# Altium integrated library TI_Logic_Flip-Flop,Latch,Register.IntLib: 2598 symbols (part 64 of 122)
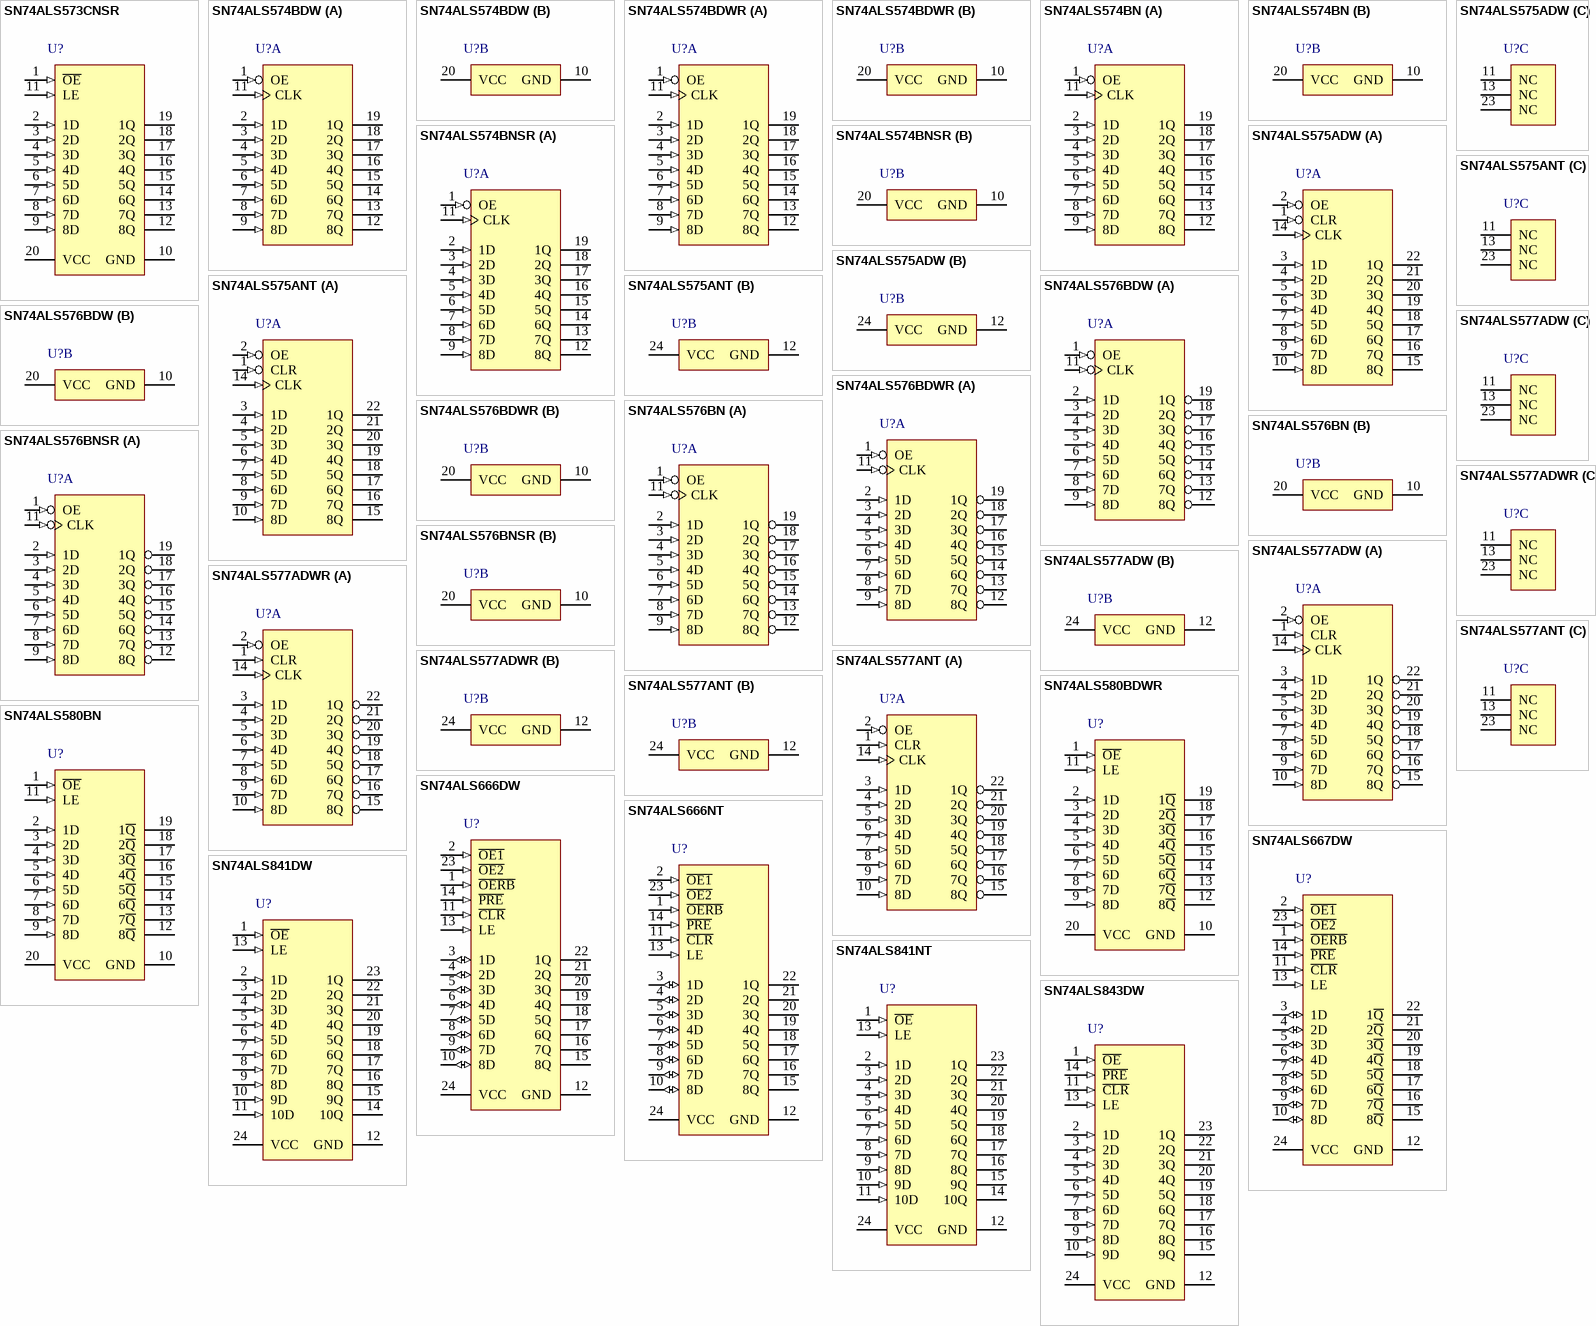
[diagram p202: symbols SN74ALS573CNSR to SN74ALS843DW]

## SN74ALS574BN
designator U?
Octal D-Type Edge-Triggered Flip-Flops with 3-State Outputs, N0020A, TUBE; Generic Part Number: SN74ALS574B; Manufacturer: Texas Instruments; PartNumber: SN74ALS574BN; VCC(Min)(V): 4.5; VCC(Max)(V): 5.5; Output Type: TTL; ICC @ Nom Voltage(Max)(mA): 30; Bits(#): 8; F @ Nom Voltage(Max)(Mhz): 75; Rating: Catalog; Technology Family: ALS; Voltage(Nom)(V): 5; Schmitt Trigger: No; Output Drive (IOL/IOH)(Max)(mA): 24/-2.6; Output Logic: Non-inverted; 3-State Output: Yes; tpd @ Nom Voltage(Max)(ns): 14; DatasheetVersion: SDAS165B; PackageReference: N0020A; Supplier 1: Digi-Key; Supplier Part Number 1: 296-1504-5-ND; Supplier 2: Farnell; Supplier Part Number 2: 1105961; Supplier 3: Newark; Supplier Part Number 3: 08F6077; Supplier 4: Mouser; Supplier Part Number 4: 595-SN74ALS574BN; Input Type: TTL; Operating Temperature Range(C): 0 to 70; Code_JEDEC: MS-001; ComponentLink1Description: Manufacturer URL; ComponentLink1URL: http://www.ti.com/; ComponentLink2Description: Datasheet; ComponentLink2URL: http://www.ti.com/lit/ds/symlink/sn74als574b.pdf; ComponentLink3Description: Package Specification; ComponentLink3URL: http://www.ti.com/lit/ml/mpdi002c/mpdi002c.pdf
footprint N0020A (DIP, 20-Leads, Body 26.9x6.6mm, Pitch 2.54mm)
part A pins: 1 OE (in), 2 1D (in), 3 2D (in), 4 3D (in), 5 4D (in), 6 5D (in), 7 6D (in), 8 7D (in), 9 8D (in), 11 CLK (in), 12 8Q (hiz), 13 7Q (hiz), 14 6Q (hiz), 15 5Q (hiz), 16 4Q (hiz), 17 3Q (hiz), 18 2Q (hiz), 19 1Q (hiz)
part B pins: 10 GND (power), 20 VCC (power)

## SN74ALS574BNSR
designator U?
Octal D-Type Edge-Triggered Flip-Flops with 3-State Outputs, NS0020A, LARGE T&R; Generic Part Number: SN74ALS574B; Manufacturer: Texas Instruments; PartNumber: SN74ALS574BNSR; VCC(Min)(V): 4.5; VCC(Max)(V): 5.5; Output Type: TTL; ICC @ Nom Voltage(Max)(mA): 30; Bits(#): 8; F @ Nom Voltage(Max)(Mhz): 75; Rating: Catalog; Technology Family: ALS; Voltage(Nom)(V): 5; Schmitt Trigger: No; Output Drive (IOL/IOH)(Max)(mA): 24/-2.6; Output Logic: Non-inverted; 3-State Output: Yes; tpd @ Nom Voltage(Max)(ns): 14; DatasheetVersion: SDAS165B; PackageReference: NS0020A; Supplier 1: Digi-Key; Supplier Part Number 1: 296-29185-2-ND; Supplier 2: Digi-Key; Supplier Part Number 2: 296-29185-1-ND; Supplier 3: Digi-Key; Supplier Part Number 3: 296-29185-6-ND; Supplier 4: Mouser; Supplier Part Number 4: 595-SN74ALS574BNSR; Input Type: TTL; Operating Temperature Range(C): 0 to 70; ComponentLink1Description: Manufacturer URL; ComponentLink1URL: http://www.ti.com/; ComponentLink2Description: Datasheet; ComponentLink2URL: http://www.ti.com/lit/ds/symlink/sn74als574b.pdf; ComponentLink3Description: Package Specification; ComponentLink3URL: http://www.ti.com/lit/ml/msop002a/msop002a.pdf
footprint NS0020A_N (SOIC,20-Leads,Body 12.9x5.6mm,Pitch 1.27mm,IPC Medium Density)
footprint NS0020A_M (SOIC,20-Leads,Body 12.9x5.6mm,Pitch 1.27mm,IPC Low Density)
footprint NS0020A_L (SOIC,20-Leads,Body 12.9x5.6mm,Pitch 1.27mm,IPC High Density)
part A pins: 1 OE (in), 2 1D (in), 3 2D (in), 4 3D (in), 5 4D (in), 6 5D (in), 7 6D (in), 8 7D (in), 9 8D (in), 11 CLK (in), 12 8Q (hiz), 13 7Q (hiz), 14 6Q (hiz), 15 5Q (hiz), 16 4Q (hiz), 17 3Q (hiz), 18 2Q (hiz), 19 1Q (hiz)
part B pins: 10 GND (power), 20 VCC (power)

## SN74ALS575ADW
designator U?
Octal D-Type Edge-Triggered Flip-Flops With 3-State Outputs, DW0024A, TUBE; Generic Part Number: SN74ALS575A; Manufacturer: Texas Instruments; PartNumber: SN74ALS575ADW; VCC(Min)(V): 4.5; VCC(Max)(V): 5.5; Output Type: TTL; ICC @ Nom Voltage(Max)(mA): 30; Bits(#): 8; F @ Nom Voltage(Max)(Mhz): 75; Rating: Catalog; Technology Family: ALS; Voltage(Nom)(V): 5; Schmitt Trigger: No; Output Drive (IOL/IOH)(Max)(mA): 24/-2.6; Output Logic: Non-inverted; 3-State Output: Yes; tpd @ Nom Voltage(Max)(ns): 14; DatasheetVersion: SDAS165B; PackageReference: DW0024A; Supplier 1: Digi-Key; Supplier Part Number 1: 296-33751-5-ND; Supplier 2: Mouser; Supplier Part Number 2: 595-SN74ALS575ADW; Input Type: TTL; Operating Temperature Range(C): 0 to 70; Code_JEDEC: MS-013; ComponentLink1Description: Manufacturer URL; ComponentLink1URL: http://www.ti.com/; ComponentLink2Description: Datasheet; ComponentLink2URL: http://www.ti.com/lit/ds/symlink/sn74als575a.pdf; ComponentLink3Description: Package Specification; ComponentLink3URL: http://www.ti.com/lit/ml/mpds174a/mpds174a.pdf
footprint DW0024A_N (SOIC, 24-Leads, Body 15.6x7.6mm, Pitch 1.27mm, IPC Medium Density)
footprint DW0024A_M (SOIC, 24-Leads, Body 15.6x7.6mm, Pitch 1.27mm, IPC Low Density)
footprint DW0024A_L (SOIC, 24-Leads, Body 15.6x7.6mm, Pitch 1.27mm, IPC High Density)
part A pins: 1 CLR (in), 2 OE (in), 3 1D (in), 4 2D (in), 5 3D (in), 6 4D (in), 7 5D (in), 8 6D (in), 9 7D (in), 10 8D (in), 14 CLK (in), 15 8Q (hiz), 16 7Q (hiz), 17 6Q (hiz), 18 5Q (hiz), 19 4Q (hiz), 20 3Q (hiz), 21 2Q (hiz), 22 1Q (hiz)
part B pins: 12 GND (power), 24 VCC (power)
part C pins: 11 NC, 13 NC, 23 NC

## SN74ALS575ANT
designator U?
Octal D-Type Edge-Triggered Flip-Flops With 3-State Outputs, NT0024A, TUBE; Generic Part Number: SN74ALS575A; Manufacturer: Texas Instruments; PartNumber: SN74ALS575ANT; VCC(Min)(V): 4.5; VCC(Max)(V): 5.5; Output Type: TTL; ICC @ Nom Voltage(Max)(mA): 30; Bits(#): 8; F @ Nom Voltage(Max)(Mhz): 75; Rating: Catalog; Technology Family: ALS; Voltage(Nom)(V): 5; Schmitt Trigger: No; Output Drive (IOL/IOH)(Max)(mA): 24/-2.6; Output Logic: Non-inverted; 3-State Output: Yes; tpd @ Nom Voltage(Max)(ns): 14; DatasheetVersion: SDAS165B; PackageReference: NT0024A; Supplier 1: Digi-Key; Supplier Part Number 1: SN74ALS575ANT-ND; Supplier 2: Newark; Supplier Part Number 2: 08F6078; Supplier 3: Mouser; Supplier Part Number 3: 595-SN74ALS575ANT; Input Type: TTL; Operating Temperature Range(C): 0 to 70; ComponentLink1Description: Manufacturer URL; ComponentLink1URL: http://www.ti.com/; ComponentLink2Description: Datasheet; ComponentLink2URL: http://www.ti.com/lit/ds/symlink/sn74als575a.pdf; ComponentLink3Description: Package Specification; ComponentLink3URL: http://www.ti.com/lit/ml/mpdi004a/mpdi004a.pdf
footprint NT0024A (DIP, 24-Leads, Body 32.05x7.1mm, Pitch 2.54mm)
part A pins: 1 CLR (in), 2 OE (in), 3 1D (in), 4 2D (in), 5 3D (in), 6 4D (in), 7 5D (in), 8 6D (in), 9 7D (in), 10 8D (in), 14 CLK (in), 15 8Q (hiz), 16 7Q (hiz), 17 6Q (hiz), 18 5Q (hiz), 19 4Q (hiz), 20 3Q (hiz), 21 2Q (hiz), 22 1Q (hiz)
part B pins: 12 GND (power), 24 VCC (power)
part C pins: 11 NC, 13 NC, 23 NC

## SN74ALS576BDW
designator U?
Octal D-Type Edge-Triggered Flip-Flops With 3-State Outputs, DW0020A, TUBE; Generic Part Number: SN74ALS576B; Manufacturer: Texas Instruments; PartNumber: SN74ALS576BDW; VCC(Min)(V): 4.5; VCC(Max)(V): 5.5; Output Type: TTL; ICC @ Nom Voltage(Max)(mA): 30; Bits(#): 8; F @ Nom Voltage(Max)(Mhz): 75; Rating: Catalog; Technology Family: ALS; Voltage(Nom)(V): 5; Schmitt Trigger: No; Output Drive (IOL/IOH)(Max)(mA): 24/-2.6; Output Logic: Inverted; 3-State Output: Yes; tpd @ Nom Voltage(Max)(ns): 14; DatasheetVersion: SDAS065B; PackageReference: DW0020A; Supplier 1: Digi-Key; Supplier Part Number 1: SN74ALS576BDW-ND; Supplier 2: Farnell; Supplier Part Number 2: 1749819; Supplier 3: Mouser; Supplier Part Number 3: 595-SN74ALS576BDW; Input Type: TTL; Operating Temperature Range(C): 0 to 70; Code_JEDEC: MS-013; ComponentLink1Description: Manufacturer URL; ComponentLink1URL: http://www.ti.com/; ComponentLink2Description: Datasheet; ComponentLink2URL: http://www.ti.com/lit/ds/symlink/sn74als576b.pdf; ComponentLink3Description: Package Specification; ComponentLink3URL: http://www.ti.com/lit/ml/mpds173a/mpds173a.pdf
footprint DW0020A_N (SOIC, 20-Leads, Body 13x7.6mm, Pitch 1.27mm, IPC Medium Density)
footprint DW0020A_M (SOIC, 20-Leads, Body 13x7.6mm, Pitch 1.27mm, IPC Low Density)
footprint DW0020A_L (SOIC, 20-Leads, Body 13x7.6mm, Pitch 1.27mm, IPC High Density)
part A pins: 1 OE (in), 2 1D (in), 3 2D (in), 4 3D (in), 5 4D (in), 6 5D (in), 7 6D (in), 8 7D (in), 9 8D (in), 11 CLK (in), 12 8Q (hiz), 13 7Q (hiz), 14 6Q (hiz), 15 5Q (hiz), 16 4Q (hiz), 17 3Q (hiz), 18 2Q (hiz), 19 1Q (hiz)
part B pins: 10 GND (power), 20 VCC (power)

## SN74ALS576BDWR
designator U?
Octal D-Type Edge-Triggered Flip-Flops With 3-State Outputs, DW0020A, LARGE T&R; Generic Part Number: SN74ALS576B; Manufacturer: Texas Instruments; PartNumber: SN74ALS576BDWR; VCC(Min)(V): 4.5; VCC(Max)(V): 5.5; Output Type: TTL; ICC @ Nom Voltage(Max)(mA): 30; Bits(#): 8; F @ Nom Voltage(Max)(Mhz): 75; Rating: Catalog; Technology Family: ALS; Voltage(Nom)(V): 5; Schmitt Trigger: No; Output Drive (IOL/IOH)(Max)(mA): 24/-2.6; Output Logic: Inverted; 3-State Output: Yes; tpd @ Nom Voltage(Max)(ns): 14; DatasheetVersion: SDAS065B; PackageReference: DW0020A; Supplier 1: Digi-Key; Supplier Part Number 1: 296-28997-2-ND; Supplier 2: Digi-Key; Supplier Part Number 2: 296-28997-1-ND; Supplier 3: Digi-Key; Supplier Part Number 3: 296-28997-6-ND; Supplier 4: Mouser; Supplier Part Number 4: 595-SN74ALS576BDWR; Input Type: TTL; Operating Temperature Range(C): 0 to 70; Code_JEDEC: MS-013; ComponentLink1Description: Manufacturer URL; ComponentLink1URL: http://www.ti.com/; ComponentLink2Description: Datasheet; ComponentLink2URL: http://www.ti.com/lit/ds/symlink/sn74als576b.pdf; ComponentLink3Description: Package Specification; ComponentLink3URL: http://www.ti.com/lit/ml/mpds173a/mpds173a.pdf
footprint DW0020A_N (SOIC, 20-Leads, Body 13x7.6mm, Pitch 1.27mm, IPC Medium Density)
footprint DW0020A_M (SOIC, 20-Leads, Body 13x7.6mm, Pitch 1.27mm, IPC Low Density)
footprint DW0020A_L (SOIC, 20-Leads, Body 13x7.6mm, Pitch 1.27mm, IPC High Density)
part A pins: 1 OE (in), 2 1D (in), 3 2D (in), 4 3D (in), 5 4D (in), 6 5D (in), 7 6D (in), 8 7D (in), 9 8D (in), 11 CLK (in), 12 8Q (hiz), 13 7Q (hiz), 14 6Q (hiz), 15 5Q (hiz), 16 4Q (hiz), 17 3Q (hiz), 18 2Q (hiz), 19 1Q (hiz)
part B pins: 10 GND (power), 20 VCC (power)

## SN74ALS576BN
designator U?
Octal D-Type Edge-Triggered Flip-Flops With 3-State Outputs, N0020A, TUBE; Generic Part Number: SN74ALS576B; Manufacturer: Texas Instruments; PartNumber: SN74ALS576BN; VCC(Min)(V): 4.5; VCC(Max)(V): 5.5; Output Type: TTL; ICC @ Nom Voltage(Max)(mA): 30; Bits(#): 8; F @ Nom Voltage(Max)(Mhz): 75; Rating: Catalog; Technology Family: ALS; Voltage(Nom)(V): 5; Schmitt Trigger: No; Output Drive (IOL/IOH)(Max)(mA): 24/-2.6; Output Logic: Inverted; 3-State Output: Yes; tpd @ Nom Voltage(Max)(ns): 14; DatasheetVersion: SDAS065B; PackageReference: N0020A; Supplier 1: Digi-Key; Supplier Part Number 1: 296-33752-5-ND; Supplier 2: Farnell; Supplier Part Number 2: 1749820; Supplier 3: Mouser; Supplier Part Number 3: 595-SN74ALS576BN; Input Type: TTL; Operating Temperature Range(C): 0 to 70; Code_JEDEC: MS-001; ComponentLink1Description: Manufacturer URL; ComponentLink1URL: http://www.ti.com/; ComponentLink2Description: Datasheet; ComponentLink2URL: http://www.ti.com/lit/ds/symlink/sn74als576b.pdf; ComponentLink3Description: Package Specification; ComponentLink3URL: http://www.ti.com/lit/ml/mpdi002c/mpdi002c.pdf
footprint N0020A (DIP, 20-Leads, Body 26.9x6.6mm, Pitch 2.54mm)
part A pins: 1 OE (in), 2 1D (in), 3 2D (in), 4 3D (in), 5 4D (in), 6 5D (in), 7 6D (in), 8 7D (in), 9 8D (in), 11 CLK (in), 12 8Q (hiz), 13 7Q (hiz), 14 6Q (hiz), 15 5Q (hiz), 16 4Q (hiz), 17 3Q (hiz), 18 2Q (hiz), 19 1Q (hiz)
part B pins: 10 GND (power), 20 VCC (power)

## SN74ALS576BNSR
designator U?
Octal D-Type Edge-Triggered Flip-Flops With 3-State Outputs, NS0020A, LARGE T&R; Generic Part Number: SN74ALS576B; Manufacturer: Texas Instruments; PartNumber: SN74ALS576BNSR; VCC(Min)(V): 4.5; VCC(Max)(V): 5.5; Output Type: TTL; ICC @ Nom Voltage(Max)(mA): 30; Bits(#): 8; F @ Nom Voltage(Max)(Mhz): 75; Rating: Catalog; Technology Family: ALS; Voltage(Nom)(V): 5; Schmitt Trigger: No; Output Drive (IOL/IOH)(Max)(mA): 24/-2.6; Output Logic: Inverted; 3-State Output: Yes; tpd @ Nom Voltage(Max)(ns): 14; DatasheetVersion: SDAS065B; PackageReference: NS0020A; Supplier 1: Digi-Key; Supplier Part Number 1: 296-28494-2-ND; Supplier 2: Digi-Key; Supplier Part Number 2: 296-28494-1-ND; Supplier 3: Digi-Key; Supplier Part Number 3: 296-28494-6-ND; Supplier 4: Mouser; Supplier Part Number 4: 595-SN74ALS576BNSR; Input Type: TTL; Operating Temperature Range(C): 0 to 70; ComponentLink1Description: Manufacturer URL; ComponentLink1URL: http://www.ti.com/; ComponentLink2Description: Datasheet; ComponentLink2URL: http://www.ti.com/lit/ds/symlink/sn74als576b.pdf; ComponentLink3Description: Package Specification; ComponentLink3URL: http://www.ti.com/lit/ml/msop002a/msop002a.pdf
footprint NS0020A_N (SOIC,20-Leads,Body 12.9x5.6mm,Pitch 1.27mm,IPC Medium Density)
footprint NS0020A_M (SOIC,20-Leads,Body 12.9x5.6mm,Pitch 1.27mm,IPC Low Density)
footprint NS0020A_L (SOIC,20-Leads,Body 12.9x5.6mm,Pitch 1.27mm,IPC High Density)
part A pins: 1 OE (in), 2 1D (in), 3 2D (in), 4 3D (in), 5 4D (in), 6 5D (in), 7 6D (in), 8 7D (in), 9 8D (in), 11 CLK (in), 12 8Q (hiz), 13 7Q (hiz), 14 6Q (hiz), 15 5Q (hiz), 16 4Q (hiz), 17 3Q (hiz), 18 2Q (hiz), 19 1Q (hiz)
part B pins: 10 GND (power), 20 VCC (power)

## SN74ALS577ADW
designator U?
Octal D-Type Edge-Triggered Flip-Flops With 3-State Outputs, DW0024A, TUBE; Generic Part Number: SN74ALS577A; Manufacturer: Texas Instruments; PartNumber: SN74ALS577ADW; VCC(Min)(V): 4.5; VCC(Max)(V): 5.5; Output Type: TTL; ICC @ Nom Voltage(Max)(mA): 30; Bits(#): 8; F @ Nom Voltage(Max)(Mhz): 75; Rating: Catalog; Technology Family: ALS; Voltage(Nom)(V): 5; Schmitt Trigger: No; Output Drive (IOL/IOH)(Max)(mA): 24/-2.6; Output Logic: Inverted; 3-State Output: Yes; tpd @ Nom Voltage(Max)(ns): 14; DatasheetVersion: SDAS065B; PackageReference: DW0024A; Supplier 1: Digi-Key; Supplier Part Number 1: SN74ALS577ADW-ND; Supplier 2: Mouser; Supplier Part Number 2: 595-SN74ALS577ADW; Input Type: TTL; Operating Temperature Range(C): 0 to 70; Code_JEDEC: MS-013; ComponentLink1Description: Manufacturer URL; ComponentLink1URL: http://www.ti.com/; ComponentLink2Description: Datasheet; ComponentLink2URL: http://www.ti.com/lit/ds/symlink/sn74als577a.pdf; ComponentLink3Description: Package Specification; ComponentLink3URL: http://www.ti.com/lit/ml/mpds174a/mpds174a.pdf
footprint DW0024A_N (SOIC, 24-Leads, Body 15.6x7.6mm, Pitch 1.27mm, IPC Medium Density)
footprint DW0024A_M (SOIC, 24-Leads, Body 15.6x7.6mm, Pitch 1.27mm, IPC Low Density)
footprint DW0024A_L (SOIC, 24-Leads, Body 15.6x7.6mm, Pitch 1.27mm, IPC High Density)
part A pins: 1 CLR (in), 2 OE (in), 3 1D (in), 4 2D (in), 5 3D (in), 6 4D (in), 7 5D (in), 8 6D (in), 9 7D (in), 10 8D (in), 14 CLK (in), 15 8Q (hiz), 16 7Q (hiz), 17 6Q (hiz), 18 5Q (hiz), 19 4Q (hiz), 20 3Q (hiz), 21 2Q (hiz), 22 1Q (hiz)
part B pins: 12 GND (power), 24 VCC (power)
part C pins: 11 NC, 13 NC, 23 NC

## SN74ALS577ADWR
designator U?
Octal D-Type Edge-Triggered Flip-Flops With 3-State Outputs, DW0024A, LARGE T&R; Generic Part Number: SN74ALS577A; Manufacturer: Texas Instruments; PartNumber: SN74ALS577ADWR; VCC(Min)(V): 4.5; VCC(Max)(V): 5.5; Output Type: TTL; ICC @ Nom Voltage(Max)(mA): 30; Bits(#): 8; F @ Nom Voltage(Max)(Mhz): 75; Rating: Catalog; Technology Family: ALS; Voltage(Nom)(V): 5; Schmitt Trigger: No; Output Drive (IOL/IOH)(Max)(mA): 24/-2.6; Output Logic: Inverted; 3-State Output: Yes; tpd @ Nom Voltage(Max)(ns): 14; DatasheetVersion: SDAS065B; PackageReference: DW0024A; Supplier 1: Digi-Key; Supplier Part Number 1: 296-29486-2-ND; Supplier 2: Digi-Key; Supplier Part Number 2: 296-29486-1-ND; Supplier 3: Digi-Key; Supplier Part Number 3: 296-29486-6-ND; Supplier 4: Mouser; Supplier Part Number 4: 595-SN74ALS577ADWR; Input Type: TTL; Operating Temperature Range(C): 0 to 70; Code_JEDEC: MS-013; ComponentLink1Description: Manufacturer URL; ComponentLink1URL: http://www.ti.com/; ComponentLink2Description: Datasheet; ComponentLink2URL: http://www.ti.com/lit/ds/symlink/sn74als577a.pdf; ComponentLink3Description: Package Specification; ComponentLink3URL: http://www.ti.com/lit/ml/mpds174a/mpds174a.pdf
footprint DW0024A_N (SOIC, 24-Leads, Body 15.6x7.6mm, Pitch 1.27mm, IPC Medium Density)
footprint DW0024A_M (SOIC, 24-Leads, Body 15.6x7.6mm, Pitch 1.27mm, IPC Low Density)
footprint DW0024A_L (SOIC, 24-Leads, Body 15.6x7.6mm, Pitch 1.27mm, IPC High Density)
part A pins: 1 CLR (in), 2 OE (in), 3 1D (in), 4 2D (in), 5 3D (in), 6 4D (in), 7 5D (in), 8 6D (in), 9 7D (in), 10 8D (in), 14 CLK (in), 15 8Q (hiz), 16 7Q (hiz), 17 6Q (hiz), 18 5Q (hiz), 19 4Q (hiz), 20 3Q (hiz), 21 2Q (hiz), 22 1Q (hiz)
part B pins: 12 GND (power), 24 VCC (power)
part C pins: 11 NC, 13 NC, 23 NC

## SN74ALS577ANT
designator U?
Octal D-Type Edge-Triggered Flip-Flops With 3-State Outputs, NT0024A, TUBE; Generic Part Number: SN74ALS577A; Manufacturer: Texas Instruments; PartNumber: SN74ALS577ANT; VCC(Min)(V): 4.5; VCC(Max)(V): 5.5; Output Type: TTL; ICC @ Nom Voltage(Max)(mA): 30; Bits(#): 8; F @ Nom Voltage(Max)(Mhz): 75; Rating: Catalog; Technology Family: ALS; Voltage(Nom)(V): 5; Schmitt Trigger: No; Output Drive (IOL/IOH)(Max)(mA): 24/-2.6; Output Logic: Inverted; 3-State Output: Yes; tpd @ Nom Voltage(Max)(ns): 14; DatasheetVersion: SDAS065B; PackageReference: NT0024A; Supplier 1: Digi-Key; Supplier Part Number 1: SN74ALS577ANT-ND; Supplier 2: Newark; Supplier Part Number 2: 76C2133; Supplier 3: Mouser; Supplier Part Number 3: 595-SN74ALS577ANT; Input Type: TTL; Operating Temperature Range(C): 0 to 70; ComponentLink1Description: Manufacturer URL; ComponentLink1URL: http://www.ti.com/; ComponentLink2Description: Datasheet; ComponentLink2URL: http://www.ti.com/lit/ds/symlink/sn74als577a.pdf; ComponentLink3Description: Package Specification; ComponentLink3URL: http://www.ti.com/lit/ml/mpdi004a/mpdi004a.pdf
footprint NT0024A (DIP, 24-Leads, Body 32.05x7.1mm, Pitch 2.54mm)
part A pins: 1 CLR (in), 2 OE (in), 3 1D (in), 4 2D (in), 5 3D (in), 6 4D (in), 7 5D (in), 8 6D (in), 9 7D (in), 10 8D (in), 14 CLK (in), 15 8Q (hiz), 16 7Q (hiz), 17 6Q (hiz), 18 5Q (hiz), 19 4Q (hiz), 20 3Q (hiz), 21 2Q (hiz), 22 1Q (hiz)
part B pins: 12 GND (power), 24 VCC (power)
part C pins: 11 NC, 13 NC, 23 NC

## SN74ALS580BDWR
designator U?
Octal D-Type Transparent Latches With 3-State Outputs, DW0020A, LARGE T&R; Generic Part Number: SN74ALS580B; Manufacturer: Texas Instruments; PartNumber: SN74ALS580BDWR; VCC(Min)(V): 4.5; VCC(Max)(V): 5.5; Output Type: TTL; Logic: Inverting; Static Current: 21.5; ICC @ Nom Voltage(Max)(mA): 29; Bits(#): 8; F @ Nom Voltage(Max)(Mhz): 75; Rating: Catalog; Technology Family: ALS; Voltage(Nom)(V): 5; Schmitt Trigger: No; Output Drive (IOL/IOH)(Max)(mA): 24/--2.6; Output Logic: Inverted; 3-State Output: Yes; tpd @ Nom Voltage(Max)(ns): 18; DatasheetVersion: SDAS277; PackageReference: DW0020A; Supplier 1: Digi-Key; Supplier Part Number 1: 296-28495-2-ND; Supplier 2: Digi-Key; Supplier Part Number 2: 296-28495-1-ND; Supplier 3: Digi-Key; Supplier Part Number 3: 296-28495-6-ND; Supplier 4: Mouser; Supplier Part Number 4: 595-SN74ALS580BDWR; Input Type: TTL; Operating Temperature Range(C): 0 to 70; Code_JEDEC: MS-013; ComponentLink1Description: Manufacturer URL; ComponentLink1URL: http://www.ti.com/; ComponentLink2Description: Datasheet; ComponentLink2URL: http://www.ti.com/lit/ds/symlink/sn74als580b.pdf; ComponentLink3Description: Package Specification; ComponentLink3URL: http://www.ti.com/lit/ml/mpds173a/mpds173a.pdf
footprint DW0020A_N (SOIC, 20-Leads, Body 13x7.6mm, Pitch 1.27mm, IPC Medium Density)
footprint DW0020A_M (SOIC, 20-Leads, Body 13x7.6mm, Pitch 1.27mm, IPC Low Density)
footprint DW0020A_L (SOIC, 20-Leads, Body 13x7.6mm, Pitch 1.27mm, IPC High Density)
pins: 1 ~{OE} (in), 2 1D (in), 3 2D (in), 4 3D (in), 5 4D (in), 6 5D (in), 7 6D (in), 8 7D (in), 9 8D (in), 10 GND (power), 11 LE (in), 12 8~{Q} (hiz), 13 7~{Q} (hiz), 14 6~{Q} (hiz), 15 5~{Q} (hiz), 16 4~{Q} (hiz), 17 3~{Q} (hiz), 18 2~{Q} (hiz), 19 1~{Q} (hiz), 20 VCC (power)

## SN74ALS580BN
designator U?
Octal D-Type Transparent Latches With 3-State Outputs, N0020A, TUBE; Generic Part Number: SN74ALS580B; Manufacturer: Texas Instruments; PartNumber: SN74ALS580BN; VCC(Min)(V): 4.5; VCC(Max)(V): 5.5; Output Type: TTL; Logic: Inverting; Static Current: 21.5; ICC @ Nom Voltage(Max)(mA): 29; Bits(#): 8; F @ Nom Voltage(Max)(Mhz): 75; Rating: Catalog; Technology Family: ALS; Voltage(Nom)(V): 5; Schmitt Trigger: No; Output Drive (IOL/IOH)(Max)(mA): 24/--2.6; Output Logic: Inverted; 3-State Output: Yes; tpd @ Nom Voltage(Max)(ns): 18; DatasheetVersion: SDAS277; PackageReference: N0020A; Supplier 1: Digi-Key; Supplier Part Number 1: 296-33753-5-ND; Supplier 2: Farnell; Supplier Part Number 2: 1750103; Supplier 3: Newark; Supplier Part Number 3: 08F6082; Supplier 4: Mouser; Supplier Part Number 4: 595-SN74ALS580BN; Input Type: TTL; Operating Temperature Range(C): 0 to 70; Code_JEDEC: MS-001; ComponentLink1Description: Manufacturer URL; ComponentLink1URL: http://www.ti.com/; ComponentLink2Description: Datasheet; ComponentLink2URL: http://www.ti.com/lit/ds/symlink/sn74als580b.pdf; ComponentLink3Description: Package Specification; ComponentLink3URL: http://www.ti.com/lit/ml/mpdi002c/mpdi002c.pdf
footprint N0020A (DIP, 20-Leads, Body 26.9x6.6mm, Pitch 2.54mm)
pins: 1 ~{OE} (in), 2 1D (in), 3 2D (in), 4 3D (in), 5 4D (in), 6 5D (in), 7 6D (in), 8 7D (in), 9 8D (in), 10 GND (power), 11 LE (in), 12 8~{Q} (hiz), 13 7~{Q} (hiz), 14 6~{Q} (hiz), 15 5~{Q} (hiz), 16 4~{Q} (hiz), 17 3~{Q} (hiz), 18 2~{Q} (hiz), 19 1~{Q} (hiz), 20 VCC (power)

## SN74ALS666DW
designator U?
Octal D-Type Transparent Read-Back Latches With 3-State Outputs, DW0024A, TUBE; Generic Part Number: SN74ALS666; Manufacturer: Texas Instruments; PartNumber: SN74ALS666DW; VCC(Min)(V): 4.5; VCC(Max)(V): 5.5; Output Type: TTL; ICC @ Nom Voltage(Max)(mA): 73; Bits(#): 8; F @ Nom Voltage(Max)(Mhz): 75; Rating: Catalog; Technology Family: ALS; Voltage(Nom)(V): 5; Schmitt Trigger: No; Output Drive (IOL/IOH)(Max)(mA): 24/--2.6; Output Logic: Non-inverted; 3-State Output: Yes; tpd @ Nom Voltage(Max)(ns): 18; DatasheetVersion: SDAS227A; PackageReference: DW0024A; Supplier 1: Digi-Key; Supplier Part Number 1: 296-5081-5-ND; Supplier 2: Mouser; Supplier Part Number 2: 595-SN74ALS666DW; Input Type: TTL; Operating Temperature Range(C): 0 to 70; Code_JEDEC: MS-013; ComponentLink1Description: Manufacturer URL; ComponentLink1URL: http://www.ti.com/; ComponentLink2Description: Datasheet; ComponentLink2URL: http://www.ti.com/lit/ds/symlink/sn74als666.pdf; ComponentLink3Description: Package Specification; ComponentLink3URL: http://www.ti.com/lit/ml/mpds174a/mpds174a.pdf
footprint DW0024A_N (SOIC, 24-Leads, Body 15.6x7.6mm, Pitch 1.27mm, IPC Medium Density)
footprint DW0024A_M (SOIC, 24-Leads, Body 15.6x7.6mm, Pitch 1.27mm, IPC Low Density)
footprint DW0024A_L (SOIC, 24-Leads, Body 15.6x7.6mm, Pitch 1.27mm, IPC High Density)
pins: 1 ~{OERB} (in), 2 ~{OE1} (in), 3 1D (io), 4 2D (io), 5 3D (io), 6 4D (io), 7 5D (io), 8 6D (io), 9 7D (io), 10 8D (io), 11 ~{CLR} (in), 12 GND (power), 13 LE (in), 14 ~{PRE} (in), 15 8Q (hiz), 16 7Q (hiz), 17 6Q (hiz), 18 5Q (hiz), 19 4Q (hiz), 20 3Q (hiz), 21 2Q (hiz), 22 1Q (hiz), 23 ~{OE2} (in), 24 VCC (power)

## SN74ALS666NT
designator U?
Octal D-Type Transparent Read-Back Latches With 3-State Outputs, NT0024A, TUBE; Generic Part Number: SN74ALS666; Manufacturer: Texas Instruments; PartNumber: SN74ALS666NT; VCC(Min)(V): 4.5; VCC(Max)(V): 5.5; Output Type: TTL; ICC @ Nom Voltage(Max)(mA): 73; Bits(#): 8; F @ Nom Voltage(Max)(Mhz): 75; Rating: Catalog; Technology Family: ALS; Voltage(Nom)(V): 5; Schmitt Trigger: No; Output Drive (IOL/IOH)(Max)(mA): 24/--2.6; Output Logic: Non-inverted; 3-State Output: Yes; tpd @ Nom Voltage(Max)(ns): 18; DatasheetVersion: SDAS227A; PackageReference: NT0024A; Supplier 1: Digi-Key; Supplier Part Number 1: 296-33766-5-ND; Supplier 2: Newark; Supplier Part Number 2: 08F6106; Supplier 3: Mouser; Supplier Part Number 3: 595-SN74ALS666NT; Input Type: TTL; Operating Temperature Range(C): 0 to 70; ComponentLink1Description: Manufacturer URL; ComponentLink1URL: http://www.ti.com/; ComponentLink2Description: Datasheet; ComponentLink2URL: http://www.ti.com/lit/ds/symlink/sn74als666.pdf; ComponentLink3Description: Package Specification; ComponentLink3URL: http://www.ti.com/lit/ml/mpdi004a/mpdi004a.pdf
footprint NT0024A (DIP, 24-Leads, Body 32.05x7.1mm, Pitch 2.54mm)
pins: 1 ~{OERB} (in), 2 ~{OE1} (in), 3 1D (io), 4 2D (io), 5 3D (io), 6 4D (io), 7 5D (io), 8 6D (io), 9 7D (io), 10 8D (io), 11 ~{CLR} (in), 12 GND (power), 13 LE (in), 14 ~{PRE} (in), 15 8Q (hiz), 16 7Q (hiz), 17 6Q (hiz), 18 5Q (hiz), 19 4Q (hiz), 20 3Q (hiz), 21 2Q (hiz), 22 1Q (hiz), 23 ~{OE2} (in), 24 VCC (power)

## SN74ALS667DW
designator U?
Octal D-Type Transparent Read-Back Latches With 3-State Outputs, DW0024A, TUBE; Generic Part Number: SN74ALS667; Manufacturer: Texas Instruments; PartNumber: SN74ALS667DW; VCC(Min)(V): 4.5; VCC(Max)(V): 5.5; Output Type: TTL; ICC @ Nom Voltage(Max)(mA): 79; Bits(#): 8; F @ Nom Voltage(Max)(Mhz): 75; Rating: Catalog; Technology Family: ALS; Voltage(Nom)(V): 5; Schmitt Trigger: No; Output Drive (IOL/IOH)(Max)(mA): 24/--2.6; Output Logic: Inverted; 3-State Output: Yes; tpd @ Nom Voltage(Max)(ns): 20; DatasheetVersion: SDAS227A; PackageReference: DW0024A; Supplier 1: Digi-Key; Supplier Part Number 1: SN74ALS667DW-ND; Supplier 2: Mouser; Supplier Part Number 2: 595-SN74ALS667DW; Input Type: TTL; Operating Temperature Range(C): 0 to 70; Code_JEDEC: MS-013; ComponentLink1Description: Manufacturer URL; ComponentLink1URL: http://www.ti.com/; ComponentLink2Description: Datasheet; ComponentLink2URL: http://www.ti.com/lit/ds/symlink/sn74als667.pdf; ComponentLink3Description: Package Specification; ComponentLink3URL: http://www.ti.com/lit/ml/mpds174a/mpds174a.pdf
footprint DW0024A_N (SOIC, 24-Leads, Body 15.6x7.6mm, Pitch 1.27mm, IPC Medium Density)
footprint DW0024A_M (SOIC, 24-Leads, Body 15.6x7.6mm, Pitch 1.27mm, IPC Low Density)
footprint DW0024A_L (SOIC, 24-Leads, Body 15.6x7.6mm, Pitch 1.27mm, IPC High Density)
pins: 1 ~{OERB} (in), 2 ~{OE1} (in), 3 1D (io), 4 2D (io), 5 3D (io), 6 4D (io), 7 5D (io), 8 6D (io), 9 7D (io), 10 8D (io), 11 ~{CLR} (in), 12 GND (power), 13 LE (in), 14 ~{PRE} (in), 15 8~{Q} (hiz), 16 7~{Q} (hiz), 17 6~{Q} (hiz), 18 5~{Q} (hiz), 19 4~{Q} (hiz), 20 3~{Q} (hiz), 21 2~{Q} (hiz), 22 1~{Q} (hiz), 23 ~{OE2} (in), 24 VCC (power)

## SN74ALS841DW
designator U?
10-Bit Bus-Interface D-Type Latches With 3-State Outputs, DW0024A, TUBE; Generic Part Number: SN74ALS841; Manufacturer: Texas Instruments; PartNumber: SN74ALS841DW; VCC(Min)(V): 4.5; VCC(Max)(V): 5.5; Output Type: TTL; Logic: True; Static Current: 46; ICC @ Nom Voltage(Max)(mA): 62; Bits(#): 10; F @ Nom Voltage(Max)(Mhz): 75; Rating: Catalog; Technology Family: ALS; Voltage(Nom)(V): 5; Schmitt Trigger: No; Output Drive (IOL/IOH)(Max)(mA): 24/--2.6; Output Logic: Non-inverted; 3-State Output: Yes; tpd @ Nom Voltage(Max)(ns): 13; DatasheetVersion: SDAS059C; PackageReference: DW0024A; Supplier 1: Digi-Key; Supplier Part Number 1: 296-5086-5-ND; Supplier 2: Newark; Supplier Part Number 2: 52F2300; Supplier 3: Mouser; Supplier Part Number 3: 595-SN74ALS841DW; Input Type: TTL; Operating Temperature Range(C): 0 to 70; Code_JEDEC: MS-013; ComponentLink1Description: Manufacturer URL; ComponentLink1URL: http://www.ti.com/; ComponentLink2Description: Datasheet; ComponentLink2URL: http://www.ti.com/lit/ds/symlink/sn74als841.pdf; ComponentLink3Description: Package Specification; ComponentLink3URL: http://www.ti.com/lit/ml/mpds174a/mpds174a.pdf
footprint DW0024A_N (SOIC, 24-Leads, Body 15.6x7.6mm, Pitch 1.27mm, IPC Medium Density)
footprint DW0024A_M (SOIC, 24-Leads, Body 15.6x7.6mm, Pitch 1.27mm, IPC Low Density)
footprint DW0024A_L (SOIC, 24-Leads, Body 15.6x7.6mm, Pitch 1.27mm, IPC High Density)
pins: 1 ~{OE} (in), 2 1D (in), 3 2D (in), 4 3D (in), 5 4D (in), 6 5D (in), 7 6D (in), 8 7D (in), 9 8D (in), 10 9D (in), 11 10D (in), 12 GND (power), 13 LE (in), 14 10Q (hiz), 15 9Q (hiz), 16 8Q (hiz), 17 7Q (hiz), 18 6Q (hiz), 19 5Q (hiz), 20 4Q (hiz), 21 3Q (hiz), 22 2Q (hiz), 23 1Q (hiz), 24 VCC (power)

## SN74ALS841NT
designator U?
10-Bit Bus-Interface D-Type Latches With 3-State Outputs, NT0024A, TUBE; Generic Part Number: SN74ALS841; Manufacturer: Texas Instruments; PartNumber: SN74ALS841NT; VCC(Min)(V): 4.5; VCC(Max)(V): 5.5; Output Type: TTL; Logic: True; Static Current: 46; ICC @ Nom Voltage(Max)(mA): 62; Bits(#): 10; F @ Nom Voltage(Max)(Mhz): 75; Rating: Catalog; Technology Family: ALS; Voltage(Nom)(V): 5; Schmitt Trigger: No; Output Drive (IOL/IOH)(Max)(mA): 24/--2.6; Output Logic: Non-inverted; 3-State Output: Yes; tpd @ Nom Voltage(Max)(ns): 13; DatasheetVersion: SDAS059C; PackageReference: NT0024A; Supplier 1: Digi-Key; Supplier Part Number 1: 296-5087-5-ND; Supplier 2: Newark; Supplier Part Number 2: 08F6124; Supplier 3: Mouser; Supplier Part Number 3: 595-SN74ALS841NT; Input Type: TTL; Operating Temperature Range(C): 0 to 70; ComponentLink1Description: Manufacturer URL; ComponentLink1URL: http://www.ti.com/; ComponentLink2Description: Datasheet; ComponentLink2URL: http://www.ti.com/lit/ds/symlink/sn74als841.pdf; ComponentLink3Description: Package Specification; ComponentLink3URL: http://www.ti.com/lit/ml/mpdi004a/mpdi004a.pdf
footprint NT0024A (DIP, 24-Leads, Body 32.05x7.1mm, Pitch 2.54mm)
pins: 1 ~{OE} (in), 2 1D (in), 3 2D (in), 4 3D (in), 5 4D (in), 6 5D (in), 7 6D (in), 8 7D (in), 9 8D (in), 10 9D (in), 11 10D (in), 12 GND (power), 13 LE (in), 14 10Q (hiz), 15 9Q (hiz), 16 8Q (hiz), 17 7Q (hiz), 18 6Q (hiz), 19 5Q (hiz), 20 4Q (hiz), 21 3Q (hiz), 22 2Q (hiz), 23 1Q (hiz), 24 VCC (power)

## SN74ALS843DW
designator U?
9-Bit Bus-Interface D-Type Latches With 3-State Outputs, DW0024A, TUBE; Generic Part Number: SN74ALS843; Manufacturer: Texas Instruments; PartNumber: SN74ALS843DW; VCC(Min)(V): 4.5; VCC(Max)(V): 5.5; Output Type: TTL; Logic: True; Static Current: 51.5; ICC @ Nom Voltage(Max)(mA): 67; Bits(#): 9; F @ Nom Voltage(Max)(Mhz): 75; Rating: Catalog; Technology Family: ALS; Voltage(Nom)(V): 5; Schmitt Trigger: No; Output Drive (IOL/IOH)(Max)(mA): 24/--2.6; Output Logic: Non-inverted; 3-State Output: Yes; tpd @ Nom Voltage(Max)(ns): 18; DatasheetVersion: SDAS232A; PackageReference: DW0024A; Supplier 1: Digi-Key; Supplier Part Number 1: SN74ALS843DW-ND; Supplier 2: Farnell; Supplier Part Number 2: 1741596; Supplier 3: Mouser; Supplier Part Number 3: 595-SN74ALS843DW; Input Type: TTL; Operating Temperature Range(C): 0 to 70; Code_JEDEC: MS-013; ComponentLink1Description: Manufacturer URL; ComponentLink1URL: http://www.ti.com/; ComponentLink2Description: Datasheet; ComponentLink2URL: http://www.ti.com/lit/ds/symlink/sn74als843.pdf; ComponentLink3Description: Package Specification; ComponentLink3URL: http://www.ti.com/lit/ml/mpds174a/mpds174a.pdf
footprint DW0024A_N (SOIC, 24-Leads, Body 15.6x7.6mm, Pitch 1.27mm, IPC Medium Density)
footprint DW0024A_M (SOIC, 24-Leads, Body 15.6x7.6mm, Pitch 1.27mm, IPC Low Density)
footprint DW0024A_L (SOIC, 24-Leads, Body 15.6x7.6mm, Pitch 1.27mm, IPC High Density)
pins: 1 ~{OE} (in), 2 1D (in), 3 2D (in), 4 3D (in), 5 4D (in), 6 5D (in), 7 6D (in), 8 7D (in), 9 8D (in), 10 9D (in), 11 ~{CLR} (in), 12 GND (power), 13 LE (in), 14 ~{PRE} (in), 15 9Q (hiz), 16 8Q (hiz), 17 7Q (hiz), 18 6Q (hiz), 19 5Q (hiz), 20 4Q (hiz), 21 3Q (hiz), 22 2Q (hiz), 23 1Q (hiz), 24 VCC (power)

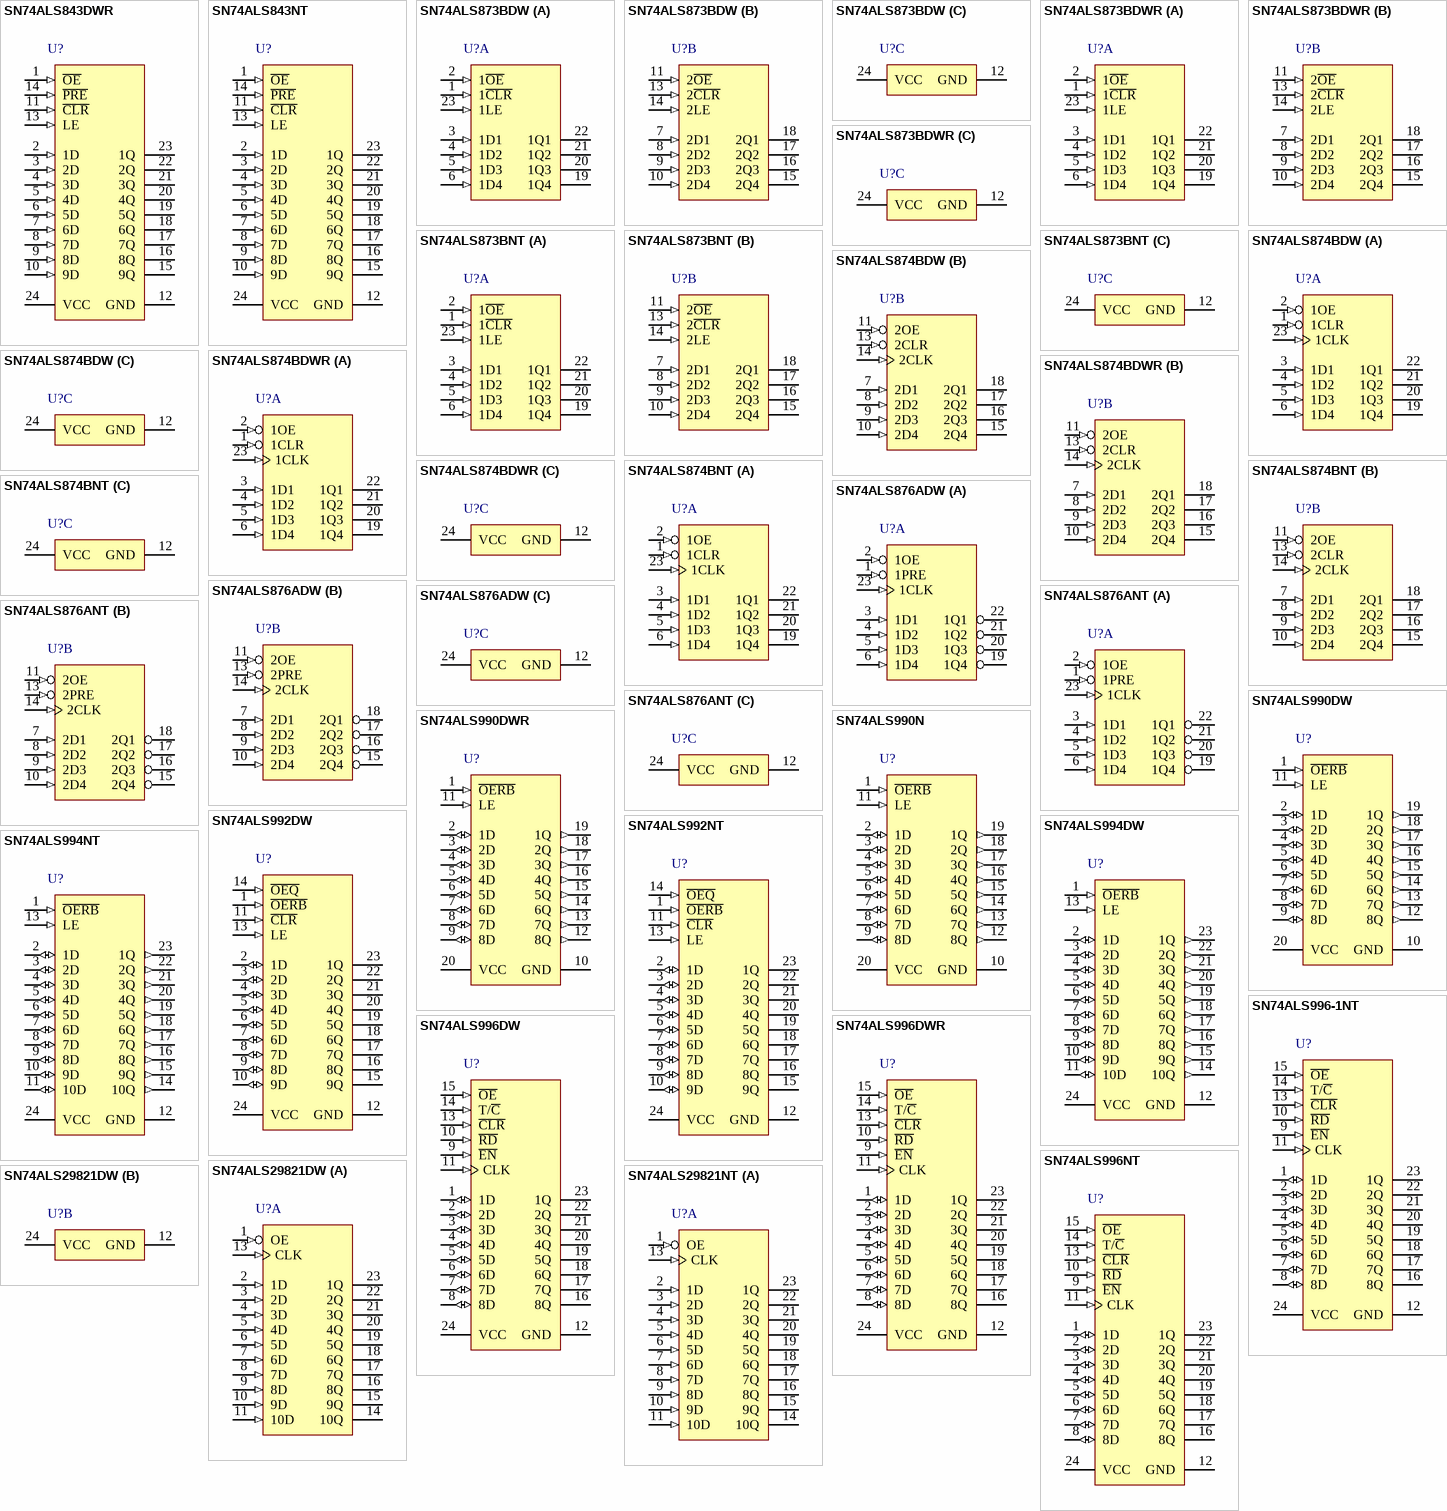
[diagram p75: symbols SN74ALS843DWR to SN74ALS29821NT]

## SN74ALS843DWR
designator U?
9-Bit Bus-Interface D-Type Latches With 3-State Outputs, DW0024A, LARGE T&R; Generic Part Number: SN74ALS843; Manufacturer: Texas Instruments; PartNumber: SN74ALS843DWR; VCC(Min)(V): 4.5; VCC(Max)(V): 5.5; Output Type: TTL; Logic: True; Static Current: 51.5; ICC @ Nom Voltage(Max)(mA): 67; Bits(#): 9; F @ Nom Voltage(Max)(Mhz): 75; Rating: Catalog; Technology Family: ALS; Voltage(Nom)(V): 5; Schmitt Trigger: No; Output Drive (IOL/IOH)(Max)(mA): 24/--2.6; Output Logic: Non-inverted; 3-State Output: Yes; tpd @ Nom Voltage(Max)(ns): 18; DatasheetVersion: SDAS232A; PackageReference: DW0024A; Supplier 1: Digi-Key; Supplier Part Number 1: SN74ALS843DWR-ND; Supplier 2: Mouser; Supplier Part Number 2: 595-SN74ALS843DWR; Input Type: TTL; Operating Temperature Range(C): 0 to 70; Code_JEDEC: MS-013; ComponentLink1Description: Manufacturer URL; ComponentLink1URL: http://www.ti.com/; ComponentLink2Description: Datasheet; ComponentLink2URL: http://www.ti.com/lit/ds/symlink/sn74als843.pdf; ComponentLink3Description: Package Specification; ComponentLink3URL: http://www.ti.com/lit/ml/mpds174a/mpds174a.pdf
footprint DW0024A_N (SOIC, 24-Leads, Body 15.6x7.6mm, Pitch 1.27mm, IPC Medium Density)
footprint DW0024A_M (SOIC, 24-Leads, Body 15.6x7.6mm, Pitch 1.27mm, IPC Low Density)
footprint DW0024A_L (SOIC, 24-Leads, Body 15.6x7.6mm, Pitch 1.27mm, IPC High Density)
pins: 1 ~{OE} (in), 2 1D (in), 3 2D (in), 4 3D (in), 5 4D (in), 6 5D (in), 7 6D (in), 8 7D (in), 9 8D (in), 10 9D (in), 11 ~{CLR} (in), 12 GND (power), 13 LE (in), 14 ~{PRE} (in), 15 9Q (hiz), 16 8Q (hiz), 17 7Q (hiz), 18 6Q (hiz), 19 5Q (hiz), 20 4Q (hiz), 21 3Q (hiz), 22 2Q (hiz), 23 1Q (hiz), 24 VCC (power)

## SN74ALS843NT
designator U?
9-Bit Bus-Interface D-Type Latches With 3-State Outputs, NT0024A, TUBE; Generic Part Number: SN74ALS843; Manufacturer: Texas Instruments; PartNumber: SN74ALS843NT; VCC(Min)(V): 4.5; VCC(Max)(V): 5.5; Output Type: TTL; Logic: True; Static Current: 51.5; ICC @ Nom Voltage(Max)(mA): 67; Bits(#): 9; F @ Nom Voltage(Max)(Mhz): 75; Rating: Catalog; Technology Family: ALS; Voltage(Nom)(V): 5; Schmitt Trigger: No; Output Drive (IOL/IOH)(Max)(mA): 24/--2.6; Output Logic: Non-inverted; 3-State Output: Yes; tpd @ Nom Voltage(Max)(ns): 18; DatasheetVersion: SDAS232A; PackageReference: NT0024A; Supplier 1: Digi-Key; Supplier Part Number 1: 296-33771-5-ND; Supplier 2: Mouser; Supplier Part Number 2: 595-SN74ALS843NT; Input Type: TTL; Operating Temperature Range(C): 0 to 70; ComponentLink1Description: Manufacturer URL; ComponentLink1URL: http://www.ti.com/; ComponentLink2Description: Datasheet; ComponentLink2URL: http://www.ti.com/lit/ds/symlink/sn74als843.pdf; ComponentLink3Description: Package Specification; ComponentLink3URL: http://www.ti.com/lit/ml/mpdi004a/mpdi004a.pdf
footprint NT0024A (DIP, 24-Leads, Body 32.05x7.1mm, Pitch 2.54mm)
pins: 1 ~{OE} (in), 2 1D (in), 3 2D (in), 4 3D (in), 5 4D (in), 6 5D (in), 7 6D (in), 8 7D (in), 9 8D (in), 10 9D (in), 11 ~{CLR} (in), 12 GND (power), 13 LE (in), 14 ~{PRE} (in), 15 9Q (hiz), 16 8Q (hiz), 17 7Q (hiz), 18 6Q (hiz), 19 5Q (hiz), 20 4Q (hiz), 21 3Q (hiz), 22 2Q (hiz), 23 1Q (hiz), 24 VCC (power)

## SN74ALS873BDW
designator U?
Dual 4-Bit D-Type Latches With 3-State Outputs, DW0024A, TUBE; Generic Part Number: SN74ALS873B; Manufacturer: Texas Instruments; PartNumber: SN74ALS873BDW; VCC(Min)(V): 4.5; VCC(Max)(V): 5.5; Output Type: TTL; Logic: True; Static Current: 25; ICC @ Nom Voltage(Max)(mA): 32; Bits(#): 8; F @ Nom Voltage(Max)(Mhz): 75; Rating: Catalog; Technology Family: ALS; Voltage(Nom)(V): 5; Schmitt Trigger: No; Output Drive (IOL/IOH)(Max)(mA): 24/--2.6; Output Logic: Non-inverted; 3-State Output: Yes; tpd @ Nom Voltage(Max)(ns): 14; DatasheetVersion: SDAS036D; PackageReference: DW0024A; Supplier 1: Digi-Key; Supplier Part Number 1: 296-5094-5-ND; Supplier 2: Farnell; Supplier Part Number 2: 1750106; Supplier 3: Mouser; Supplier Part Number 3: 595-SN74ALS873BDW; Input Type: TTL; Operating Temperature Range(C): 0 to 70; Code_JEDEC: MS-013; ComponentLink1Description: Manufacturer URL; ComponentLink1URL: http://www.ti.com/; ComponentLink2Description: Datasheet; ComponentLink2URL: http://www.ti.com/lit/ds/symlink/sn74als873b.pdf; ComponentLink3Description: Package Specification; ComponentLink3URL: http://www.ti.com/lit/ml/mpds174a/mpds174a.pdf
footprint DW0024A_N (SOIC, 24-Leads, Body 15.6x7.6mm, Pitch 1.27mm, IPC Medium Density)
footprint DW0024A_M (SOIC, 24-Leads, Body 15.6x7.6mm, Pitch 1.27mm, IPC Low Density)
footprint DW0024A_L (SOIC, 24-Leads, Body 15.6x7.6mm, Pitch 1.27mm, IPC High Density)
part A pins: 1 1~{CLR} (in), 2 1~{OE} (in), 3 1D1 (in), 4 1D2 (in), 5 1D3 (in), 6 1D4 (in), 19 1Q4 (hiz), 20 1Q3 (hiz), 21 1Q2 (hiz), 22 1Q1 (hiz), 23 1LE (in)
part B pins: 7 2D1 (in), 8 2D2 (in), 9 2D3 (in), 10 2D4 (in), 11 2~{OE} (in), 13 2~{CLR} (in), 14 2LE (in), 15 2Q4 (hiz), 16 2Q3 (hiz), 17 2Q2 (hiz), 18 2Q1 (hiz)
part C pins: 12 GND (power), 24 VCC (power)

## SN74ALS873BDWR
designator U?
Dual 4-Bit D-Type Latches With 3-State Outputs, DW0024A, LARGE T&R; Generic Part Number: SN74ALS873B; Manufacturer: Texas Instruments; PartNumber: SN74ALS873BDWR; VCC(Min)(V): 4.5; VCC(Max)(V): 5.5; Output Type: TTL; Logic: True; Static Current: 25; ICC @ Nom Voltage(Max)(mA): 32; Bits(#): 8; F @ Nom Voltage(Max)(Mhz): 75; Rating: Catalog; Technology Family: ALS; Voltage(Nom)(V): 5; Schmitt Trigger: No; Output Drive (IOL/IOH)(Max)(mA): 24/--2.6; Output Logic: Non-inverted; 3-State Output: Yes; tpd @ Nom Voltage(Max)(ns): 14; DatasheetVersion: SDAS036D; PackageReference: DW0024A; Supplier 1: Digi-Key; Supplier Part Number 1: 296-29550-2-ND; Supplier 2: Digi-Key; Supplier Part Number 2: 296-29550-1-ND; Supplier 3: Digi-Key; Supplier Part Number 3: 296-29550-6-ND; Supplier 4: Mouser; Supplier Part Number 4: 595-SN74ALS873BDWR; Input Type: TTL; Operating Temperature Range(C): 0 to 70; Code_JEDEC: MS-013; ComponentLink1Description: Manufacturer URL; ComponentLink1URL: http://www.ti.com/; ComponentLink2Description: Datasheet; ComponentLink2URL: http://www.ti.com/lit/ds/symlink/sn74als873b.pdf; ComponentLink3Description: Package Specification; ComponentLink3URL: http://www.ti.com/lit/ml/mpds174a/mpds174a.pdf
footprint DW0024A_N (SOIC, 24-Leads, Body 15.6x7.6mm, Pitch 1.27mm, IPC Medium Density)
footprint DW0024A_M (SOIC, 24-Leads, Body 15.6x7.6mm, Pitch 1.27mm, IPC Low Density)
footprint DW0024A_L (SOIC, 24-Leads, Body 15.6x7.6mm, Pitch 1.27mm, IPC High Density)
part A pins: 1 1~{CLR} (in), 2 1~{OE} (in), 3 1D1 (in), 4 1D2 (in), 5 1D3 (in), 6 1D4 (in), 19 1Q4 (hiz), 20 1Q3 (hiz), 21 1Q2 (hiz), 22 1Q1 (hiz), 23 1LE (in)
part B pins: 7 2D1 (in), 8 2D2 (in), 9 2D3 (in), 10 2D4 (in), 11 2~{OE} (in), 13 2~{CLR} (in), 14 2LE (in), 15 2Q4 (hiz), 16 2Q3 (hiz), 17 2Q2 (hiz), 18 2Q1 (hiz)
part C pins: 12 GND (power), 24 VCC (power)

## SN74ALS873BNT
designator U?
Dual 4-Bit D-Type Latches With 3-State Outputs, NT0024A, TUBE; Generic Part Number: SN74ALS873B; Manufacturer: Texas Instruments; PartNumber: SN74ALS873BNT; VCC(Min)(V): 4.5; VCC(Max)(V): 5.5; Output Type: TTL; Logic: True; Static Current: 25; ICC @ Nom Voltage(Max)(mA): 32; Bits(#): 8; F @ Nom Voltage(Max)(Mhz): 75; Rating: Catalog; Technology Family: ALS; Voltage(Nom)(V): 5; Schmitt Trigger: No; Output Drive (IOL/IOH)(Max)(mA): 24/--2.6; Output Logic: Non-inverted; 3-State Output: Yes; tpd @ Nom Voltage(Max)(ns): 14; DatasheetVersion: SDAS036D; PackageReference: NT0024A; Supplier 1: Digi-Key; Supplier Part Number 1: 296-33772-5-ND; Supplier 2: Newark; Supplier Part Number 2: 76C2227; Supplier 3: Mouser; Supplier Part Number 3: 595-SN74ALS873BNT; Input Type: TTL; Operating Temperature Range(C): 0 to 70; ComponentLink1Description: Manufacturer URL; ComponentLink1URL: http://www.ti.com/; ComponentLink2Description: Datasheet; ComponentLink2URL: http://www.ti.com/lit/ds/symlink/sn74als873b.pdf; ComponentLink3Description: Package Specification; ComponentLink3URL: http://www.ti.com/lit/ml/mpdi004a/mpdi004a.pdf
footprint NT0024A (DIP, 24-Leads, Body 32.05x7.1mm, Pitch 2.54mm)
part A pins: 1 1~{CLR} (in), 2 1~{OE} (in), 3 1D1 (in), 4 1D2 (in), 5 1D3 (in), 6 1D4 (in), 19 1Q4 (hiz), 20 1Q3 (hiz), 21 1Q2 (hiz), 22 1Q1 (hiz), 23 1LE (in)
part B pins: 7 2D1 (in), 8 2D2 (in), 9 2D3 (in), 10 2D4 (in), 11 2~{OE} (in), 13 2~{CLR} (in), 14 2LE (in), 15 2Q4 (hiz), 16 2Q3 (hiz), 17 2Q2 (hiz), 18 2Q1 (hiz)
part C pins: 12 GND (power), 24 VCC (power)

## SN74ALS874BDW
designator U?
Dual 4-Bit D-Type Edge-Triggered Flip-Flops With 3-State Outputs, DW0024A, TUBE; Generic Part Number: SN74ALS874B; Manufacturer: Texas Instruments; PartNumber: SN74ALS874BDW; VCC(Min)(V): 4.5; VCC(Max)(V): 5.5; Output Type: TTL; ICC @ Nom Voltage(Max)(mA): 31; Bits(#): 8; F @ Nom Voltage(Max)(Mhz): 75; Rating: Catalog; Technology Family: ALS; Voltage(Nom)(V): 5; Schmitt Trigger: No; Output Drive (IOL/IOH)(Max)(mA): 24/-2.6; Output Logic: Non-inverted; 3-State Output: Yes; tpd @ Nom Voltage(Max)(ns): 14; DatasheetVersion: SDAS061C; PackageReference: DW0024A; Supplier 1: Digi-Key; Supplier Part Number 1: 296-5095-5-ND; Supplier 2: Farnell; Supplier Part Number 2: 1752891; Supplier 3: Newark; Supplier Part Number 3: 08F6128; Supplier 4: Mouser; Supplier Part Number 4: 595-SN74ALS874BDW; Input Type: TTL; Operating Temperature Range(C): 0 to 70; Code_JEDEC: MS-013; ComponentLink1Description: Manufacturer URL; ComponentLink1URL: http://www.ti.com/; ComponentLink2Description: Datasheet; ComponentLink2URL: http://www.ti.com/lit/ds/symlink/sn74als874b.pdf; ComponentLink3Description: Package Specification; ComponentLink3URL: http://www.ti.com/lit/ml/mpds174a/mpds174a.pdf
footprint DW0024A_N (SOIC, 24-Leads, Body 15.6x7.6mm, Pitch 1.27mm, IPC Medium Density)
footprint DW0024A_M (SOIC, 24-Leads, Body 15.6x7.6mm, Pitch 1.27mm, IPC Low Density)
footprint DW0024A_L (SOIC, 24-Leads, Body 15.6x7.6mm, Pitch 1.27mm, IPC High Density)
part A pins: 1 1CLR (in), 2 1OE (in), 3 1D1 (in), 4 1D2 (in), 5 1D3 (in), 6 1D4 (in), 19 1Q4 (hiz), 20 1Q3 (hiz), 21 1Q2 (hiz), 22 1Q1 (hiz), 23 1CLK (in)
part B pins: 7 2D1 (in), 8 2D2 (in), 9 2D3 (in), 10 2D4 (in), 11 2OE (in), 13 2CLR (in), 14 2CLK (in), 15 2Q4 (hiz), 16 2Q3 (hiz), 17 2Q2 (hiz), 18 2Q1 (hiz)
part C pins: 12 GND (power), 24 VCC (power)

## SN74ALS874BDWR
designator U?
Dual 4-Bit D-Type Edge-Triggered Flip-Flops With 3-State Outputs, DW0024A, LARGE T&R; Generic Part Number: SN74ALS874B; Manufacturer: Texas Instruments; PartNumber: SN74ALS874BDWR; VCC(Min)(V): 4.5; VCC(Max)(V): 5.5; Output Type: TTL; ICC @ Nom Voltage(Max)(mA): 31; Bits(#): 8; F @ Nom Voltage(Max)(Mhz): 75; Rating: Catalog; Technology Family: ALS; Voltage(Nom)(V): 5; Schmitt Trigger: No; Output Drive (IOL/IOH)(Max)(mA): 24/-2.6; Output Logic: Non-inverted; 3-State Output: Yes; tpd @ Nom Voltage(Max)(ns): 14; DatasheetVersion: SDAS061C; PackageReference: DW0024A; Supplier 1: Digi-Key; Supplier Part Number 1: SN74ALS874BDWR-ND; Supplier 2: Mouser; Supplier Part Number 2: 595-SN74ALS874BDWR; Input Type: TTL; Operating Temperature Range(C): 0 to 70; Code_JEDEC: MS-013; ComponentLink1Description: Manufacturer URL; ComponentLink1URL: http://www.ti.com/; ComponentLink2Description: Datasheet; ComponentLink2URL: http://www.ti.com/lit/ds/symlink/sn74als874b.pdf; ComponentLink3Description: Package Specification; ComponentLink3URL: http://www.ti.com/lit/ml/mpds174a/mpds174a.pdf
footprint DW0024A_N (SOIC, 24-Leads, Body 15.6x7.6mm, Pitch 1.27mm, IPC Medium Density)
footprint DW0024A_M (SOIC, 24-Leads, Body 15.6x7.6mm, Pitch 1.27mm, IPC Low Density)
footprint DW0024A_L (SOIC, 24-Leads, Body 15.6x7.6mm, Pitch 1.27mm, IPC High Density)
part A pins: 1 1CLR (in), 2 1OE (in), 3 1D1 (in), 4 1D2 (in), 5 1D3 (in), 6 1D4 (in), 19 1Q4 (hiz), 20 1Q3 (hiz), 21 1Q2 (hiz), 22 1Q1 (hiz), 23 1CLK (in)
part B pins: 7 2D1 (in), 8 2D2 (in), 9 2D3 (in), 10 2D4 (in), 11 2OE (in), 13 2CLR (in), 14 2CLK (in), 15 2Q4 (hiz), 16 2Q3 (hiz), 17 2Q2 (hiz), 18 2Q1 (hiz)
part C pins: 12 GND (power), 24 VCC (power)

## SN74ALS874BNT
designator U?
Dual 4-Bit D-Type Edge-Triggered Flip-Flops With 3-State Outputs, NT0024A, TUBE; Generic Part Number: SN74ALS874B; Manufacturer: Texas Instruments; PartNumber: SN74ALS874BNT; VCC(Min)(V): 4.5; VCC(Max)(V): 5.5; Output Type: TTL; ICC @ Nom Voltage(Max)(mA): 31; Bits(#): 8; F @ Nom Voltage(Max)(Mhz): 75; Rating: Catalog; Technology Family: ALS; Voltage(Nom)(V): 5; Schmitt Trigger: No; Output Drive (IOL/IOH)(Max)(mA): 24/-2.6; Output Logic: Non-inverted; 3-State Output: Yes; tpd @ Nom Voltage(Max)(ns): 14; DatasheetVersion: SDAS061C; PackageReference: NT0024A; Supplier 1: Digi-Key; Supplier Part Number 1: 296-14752-5-ND; Supplier 2: Newark; Supplier Part Number 2: 67K1048; Supplier 3: Mouser; Supplier Part Number 3: 595-SN74ALS874BNT; Input Type: TTL; Operating Temperature Range(C): 0 to 70; ComponentLink1Description: Manufacturer URL; ComponentLink1URL: http://www.ti.com/; ComponentLink2Description: Datasheet; ComponentLink2URL: http://www.ti.com/lit/ds/symlink/sn74als874b.pdf; ComponentLink3Description: Package Specification; ComponentLink3URL: http://www.ti.com/lit/ml/mpdi004a/mpdi004a.pdf
footprint NT0024A (DIP, 24-Leads, Body 32.05x7.1mm, Pitch 2.54mm)
part A pins: 1 1CLR (in), 2 1OE (in), 3 1D1 (in), 4 1D2 (in), 5 1D3 (in), 6 1D4 (in), 19 1Q4 (hiz), 20 1Q3 (hiz), 21 1Q2 (hiz), 22 1Q1 (hiz), 23 1CLK (in)
part B pins: 7 2D1 (in), 8 2D2 (in), 9 2D3 (in), 10 2D4 (in), 11 2OE (in), 13 2CLR (in), 14 2CLK (in), 15 2Q4 (hiz), 16 2Q3 (hiz), 17 2Q2 (hiz), 18 2Q1 (hiz)
part C pins: 12 GND (power), 24 VCC (power)

## SN74ALS876ADW
designator U?
Dual 4-Bit D-Type Edge-Triggered Flip-Flops With 3-State Outputs, DW0024A, TUBE; Generic Part Number: SN74ALS876A; Manufacturer: Texas Instruments; PartNumber: SN74ALS876ADW; VCC(Min)(V): 4.5; VCC(Max)(V): 5.5; Output Type: TTL; ICC @ Nom Voltage(Max)(mA): 31; Bits(#): 8; F @ Nom Voltage(Max)(Mhz): 75; Rating: Catalog; Technology Family: ALS; Voltage(Nom)(V): 5; Schmitt Trigger: No; Output Drive (IOL/IOH)(Max)(mA): 24/-2.6; Output Logic: Inverted; 3-State Output: Yes; tpd @ Nom Voltage(Max)(ns): 14; DatasheetVersion: SDAS061C; PackageReference: DW0024A; Supplier 1: Digi-Key; Supplier Part Number 1: SN74ALS876ADW-ND; Supplier 2: Mouser; Supplier Part Number 2: 595-SN74ALS876ADW; Input Type: TTL; Operating Temperature Range(C): 0 to 70; Code_JEDEC: MS-013; ComponentLink1Description: Manufacturer URL; ComponentLink1URL: http://www.ti.com/; ComponentLink2Description: Datasheet; ComponentLink2URL: http://www.ti.com/lit/ds/symlink/sn74als876a.pdf; ComponentLink3Description: Package Specification; ComponentLink3URL: http://www.ti.com/lit/ml/mpds174a/mpds174a.pdf
footprint DW0024A_N (SOIC, 24-Leads, Body 15.6x7.6mm, Pitch 1.27mm, IPC Medium Density)
footprint DW0024A_M (SOIC, 24-Leads, Body 15.6x7.6mm, Pitch 1.27mm, IPC Low Density)
footprint DW0024A_L (SOIC, 24-Leads, Body 15.6x7.6mm, Pitch 1.27mm, IPC High Density)
part A pins: 1 1PRE (in), 2 1OE (in), 3 1D1 (in), 4 1D2 (in), 5 1D3 (in), 6 1D4 (in), 19 1Q4 (hiz), 20 1Q3 (hiz), 21 1Q2 (hiz), 22 1Q1 (hiz), 23 1CLK (in)
part B pins: 7 2D1 (in), 8 2D2 (in), 9 2D3 (in), 10 2D4 (in), 11 2OE (in), 13 2PRE (in), 14 2CLK (in), 15 2Q4 (hiz), 16 2Q3 (hiz), 17 2Q2 (hiz), 18 2Q1 (hiz)
part C pins: 12 GND (power), 24 VCC (power)

## SN74ALS876ANT
designator U?
Dual 4-Bit D-Type Edge-Triggered Flip-Flops With 3-State Outputs, NT0024A, TUBE; Generic Part Number: SN74ALS876A; Manufacturer: Texas Instruments; PartNumber: SN74ALS876ANT; VCC(Min)(V): 4.5; VCC(Max)(V): 5.5; Output Type: TTL; ICC @ Nom Voltage(Max)(mA): 31; Bits(#): 8; F @ Nom Voltage(Max)(Mhz): 75; Rating: Catalog; Technology Family: ALS; Voltage(Nom)(V): 5; Schmitt Trigger: No; Output Drive (IOL/IOH)(Max)(mA): 24/-2.6; Output Logic: Inverted; 3-State Output: Yes; tpd @ Nom Voltage(Max)(ns): 14; DatasheetVersion: SDAS061C; PackageReference: NT0024A; Supplier 1: Digi-Key; Supplier Part Number 1: 296-33773-5-ND; Supplier 2: Newark; Supplier Part Number 2: 39C1749; Supplier 3: Mouser; Supplier Part Number 3: 595-SN74ALS876ANT; Input Type: TTL; Operating Temperature Range(C): 0 to 70; ComponentLink1Description: Manufacturer URL; ComponentLink1URL: http://www.ti.com/; ComponentLink2Description: Datasheet; ComponentLink2URL: http://www.ti.com/lit/ds/symlink/sn74als876a.pdf; ComponentLink3Description: Package Specification; ComponentLink3URL: http://www.ti.com/lit/ml/mpdi004a/mpdi004a.pdf
footprint NT0024A (DIP, 24-Leads, Body 32.05x7.1mm, Pitch 2.54mm)
part A pins: 1 1PRE (in), 2 1OE (in), 3 1D1 (in), 4 1D2 (in), 5 1D3 (in), 6 1D4 (in), 19 1Q4 (hiz), 20 1Q3 (hiz), 21 1Q2 (hiz), 22 1Q1 (hiz), 23 1CLK (in)
part B pins: 7 2D1 (in), 8 2D2 (in), 9 2D3 (in), 10 2D4 (in), 11 2OE (in), 13 2PRE (in), 14 2CLK (in), 15 2Q4 (hiz), 16 2Q3 (hiz), 17 2Q2 (hiz), 18 2Q1 (hiz)
part C pins: 12 GND (power), 24 VCC (power)

## SN74ALS990DW
designator U?
Octal D-Type Transparent Read-Back Latches, DW0020A, TUBE; Generic Part Number: SN74ALS990; Manufacturer: Texas Instruments; PartNumber: SN74ALS990DW; VCC(Min)(V): 4.5; VCC(Max)(V): 5.5; Output Type: TTL; ICC @ Nom Voltage(Max)(mA): 70; Bits(#): 8; F @ Nom Voltage(Max)(Mhz): 75; Rating: Catalog; Technology Family: ALS; Voltage(Nom)(V): 5; Schmitt Trigger: No; Output Drive (IOL/IOH)(Max)(mA): 24/--2.6; Output Logic: Non-inverted; tpd @ Nom Voltage(Max)(ns): 24; DatasheetVersion: SDAS027B; PackageReference: DW0020A; Supplier 1: Digi-Key; Supplier Part Number 1: 296-5096-5-ND; Supplier 2: Newark; Supplier Part Number 2: 52F2599; Supplier 3: Mouser; Supplier Part Number 3: 595-SN74ALS990DW; Input Type: TTL; Operating Temperature Range(C): 0 to 70; 3-State Output: No; Code_JEDEC: MS-013; ComponentLink1Description: Manufacturer URL; ComponentLink1URL: http://www.ti.com/; ComponentLink2Description: Datasheet; ComponentLink2URL: http://www.ti.com/lit/ds/symlink/sn74als990.pdf; ComponentLink3Description: Package Specification; ComponentLink3URL: http://www.ti.com/lit/ml/mpds173a/mpds173a.pdf
footprint DW0020A_N (SOIC, 20-Leads, Body 13x7.6mm, Pitch 1.27mm, IPC Medium Density)
footprint DW0020A_M (SOIC, 20-Leads, Body 13x7.6mm, Pitch 1.27mm, IPC Low Density)
footprint DW0020A_L (SOIC, 20-Leads, Body 13x7.6mm, Pitch 1.27mm, IPC High Density)
pins: 1 ~{OERB} (in), 2 1D (io), 3 2D (io), 4 3D (io), 5 4D (io), 6 5D (io), 7 6D (io), 8 7D (io), 9 8D (io), 10 GND (power), 11 LE (in), 12 8Q (out), 13 7Q (out), 14 6Q (out), 15 5Q (out), 16 4Q (out), 17 3Q (out), 18 2Q (out), 19 1Q (out), 20 VCC (power)